# Altium schematic symbol library AdMainSchLibG_1.0.SchLib: 40 symbols
Pins are listed as number, name and electrical type; pins without a type are passive.

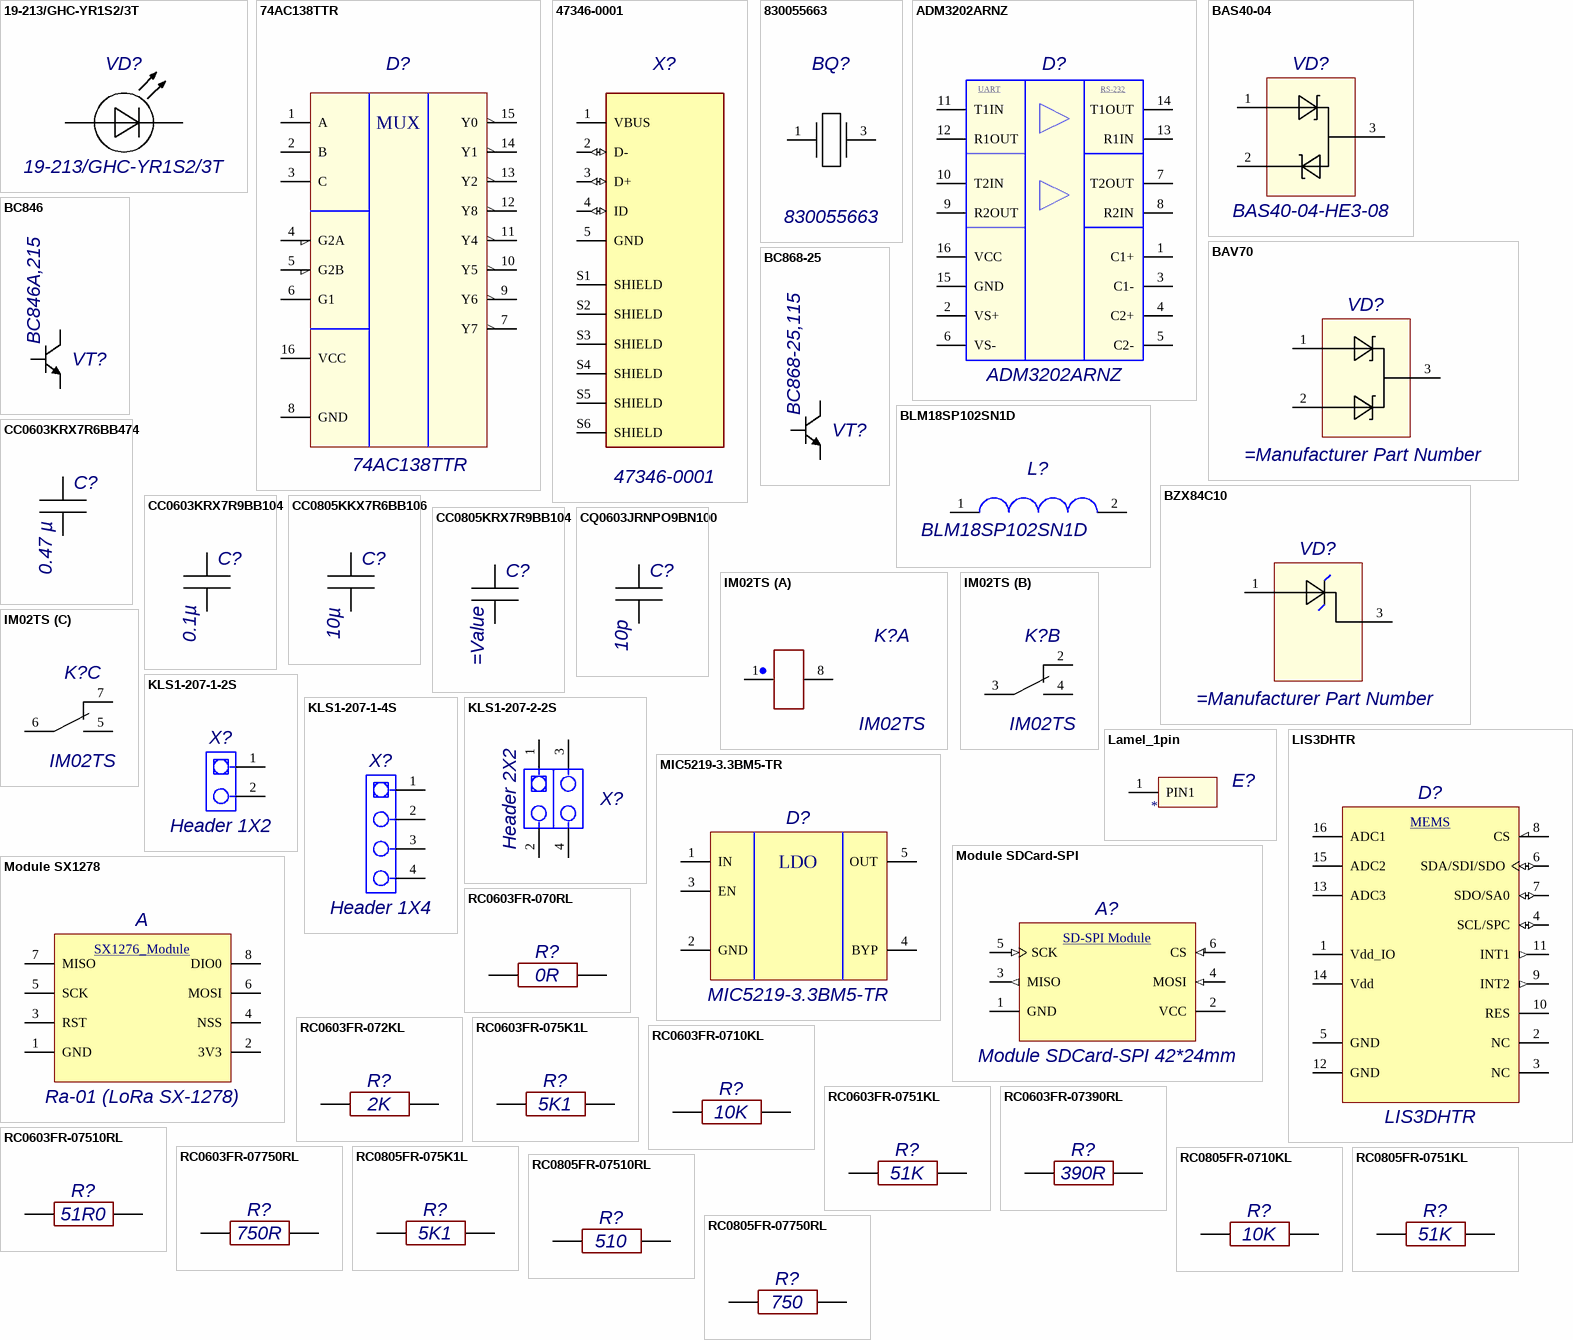
[diagram p0: symbols 19-213/GHC-YR1S2/3T to RC0805FR-07750RL]

## 19-213/GHC-YR1S2/3T
designator VD?
LED GREEN CLEAR 0603 SMD; Manufacture: Everlight Electronics Co Ltd; Catagory: Optoelectronics, LED Indication - Discrete; Millicandela Rating: 199mcd; Voltage - Forward (Vf) (Typ): 3.3V; Current - Test: 20mA; Viewing Angle: 120°; Wavelength - Dominant: 528nm; Wavelength - Peak: 518nm; Lens Color: Colorless; Lens Style: Rectangle with Flat Top; Lens Size: 1.20mm x 0.80mm; Digi-Key Part Number: 19-213/GHC-YR1S2/3T-ND; Package/Case: 0603 (1608 Metric); Color: Green; Price 1k($): $7.02; ComponentLink1Description: HelpURL; ComponentLink1URL: https://www.digikey.com/en/products/detail/everlight-electronics-co-ltd/19-213-GHC-YR1S2-3T/2691511?s=N4IgTCBcDaIDIFMAmACAjATgLRjQZgHoBxACQGEsBNAJTQGUwC8AVEAXQF8g; Manufacture Part Number: 19-213/GHC-YR1S2/3T; Size / Dimension: *; Lens Transparency: Clear; Height(Max): 0.70mm
footprint LED0603 (Led_19/213_EVERLIGHT)
pins: 1, 2

## 74AC138TTR
designator D?
IC DECODER/DEMUX 1X3:8 16TSSOPDC-DC; Manufacture: STMicroelectronics; Catagory: Integrated Circuits (ICs), Logic, Signal Switches, Multiplexers, Decoders; Digi-Key Part Number: 74AC138TTR-ND; Manufacture Part Number: 74AC138TTR; Package/Case: 16-TSSOP; Price($): This product is no longer manufactured; Value: 74AC138TTR; ComponentLink2Description: Link; ComponentLink2URL: https://www.digikey.com/en/products/detail/stmicroelectronics/74ac138ttr/1037341
footprint TSSOP-16 (74AC138TTI)
pins: 1 A "1", 2 B "2", 3 C "3", 4 G2A "4", 5 G2B "5", 6 G1 "6", 7 Y7 "7", 8 GND (power) "8", 9 Y6 "9", 10 Y5 "10", 11 Y4 "11", 12 Y8 "12", 13 Y2 "13", 14 Y1 "14", 15 Y0 "15", 16 VCC (power) "16"
text: MUX

## 47346-0001
designator X?
CONN RCPT USB2.0 MICRO B SMD R/A; Manufacture: Molex; Connector Type: USB - micro B; Current Rating (Amps): 1A, 1.8A; Voltage - Rated: 30VAC; Mating Cycles: 10000; Shielding: Shielded; Material Flammability Rating: UL94 V-0; SnapEDA_Link: https://www.snapeda.com/parts/47346-0001/Molex/view-part/53503/?ref=snap; Manufacture Part Number: 47346-0001; Digi-Key Part Number: WM17141TR-ND; Series: 47346; Parameter 3: *; Specifications: USB 2.0; Mounting Type: Surface Mount, Right Angle; Mounting Feature: Horizontal; Contact Finish: Gold; Shell/Shielding Material: Steel, Stainless
footprint MOLEX_47346-0001 (Molex MicroUSB 473460001)
pins: 1 VBUS (power), 2 D- (io), 3 D+ (io), 4 ID (io), 5 GND (power), S1 SHIELD, S2 SHIELD, S3 SHIELD, S4 SHIELD, S5 SHIELD, S6 SHIELD

## 830055663
designator BQ?
WE-XTAL QUARTZ CRYSTAL 8.0 MHZ; Manufacture: Würth Elektronik; Catagory: Crystals, Oscillators, Resonators, Crystals; Frequency: 8 MHz; Frequency Stability: ±30ppm; Frequency Tolerance: ±20ppm; Load Capacitance: 18pF; ESR (Equivalent Series Resistance): 150 Ohms; Operating Mode: Fundamental; Digi-Key Part Number: 1923-830055663TR-ND; Package/Case: 4-SMD, No Lead; Type: MHz Crystal; Price ($): $0.65; ComponentLink1Description: HelpURL; ComponentLink1URL: https://www.digikey.com/en/products/detail/w%C3%BCrth-elektronik/830055663/13900244?s=N4IgTCBcDaIBwGYAMSCsqBsGEgLoF8g; Manufacture Part Number: 830055663; Series: CFPX-104
footprint Quartz5032 (WE-830055663)
pins: 1 Crystal, 3 Crystal

## ADM3202ARNZ
designator D?
IC TRANSCEIVER FULL 2/2 16SOIC; Manufacture: Analog Devices Inc.; Catagory: Integrated Circuits (ICs), Interface, Drivers, Receivers, Transceivers; Digi-Key Part Number: ADM3202ARNZ-REELTR-ND; Manufacture Part Number: ADM3202ARNZ; Package/Case: 16-SOIC (0.154", 3.90mm Width); Price($): $3.60000; Value: ADM3202ARNZ; ComponentLink2Description: Link; ComponentLink2URL: https://www.digikey.com/en/products/detail/analog-devices-inc/adm3202arnz-reel/994470
footprint SOIC-16 (3.9mm Width) (ADM3202ARNZ (0.154", 3.90mm Width))
pins: 1 C1+, 2 VS+, 3 C1-, 4 C2+, 5 C2-, 6 VS-, 7 T2OUT, 8 R2IN, 9 R2OUT, 10 T2IN, 11 T1IN, 12 R1OUT, 13 R1IN, 14 T1OUT, 15 GND, 16 VCC
text: UART; RS-232

## BAS40-04
designator VD?, comment BAS40-04-HE3-08
DIODE ARRAY SCHOTTKY 40V SOT23; Manufacture: Vishay General Semiconductor - Diodes Division; Catagory: Discrete Semiconductor Products, Diodes - Rectifiers - Arrays; Value: SOT-23-3; Diode Configuration: 1 Pair Series Connection; Current - Average Rectified (Io) (per Diode): 200mA; Voltage - Forward (Vf) (Max) @ If: 1 V @ 40 mA; Reverse Recovery Time (trr): 5 ns; Current - Reverse Leakage @ Vr: 100 nA @ 30 V; Digi-Key Part Number: 112-BAS40-04-HE3-08TR-ND; Manufacture Part Number: BAS40-04-HE3-08; Package/Case: SOT-23-3; Price 10pcs($): $3.03 per 10pcs; ComponentLink2Description: Link Supplier; ComponentLink2URL: https://www.digikey.com/en/products/detail/vishay-general-semiconductor-diodes-division/BAS40-04-HE3-08/4830200; Diode Type: Schottky; Voltage - DC Reverse (Vr) (Max): 40 V; ComponentLink3Description: Link; ComponentLink3URL: https://www.vishay.com/docs/85701/bas40v.pdf
footprint SOT23 (BC846)
pins: 1, 2, 3

## BAV70
designator VD?
Diode Array 1 Pair Common Cathode Standard 70 V 125mA (DC) Surface Mount TO-236-3, SC-59, SOT-23-3; Manufacture: Vishay General Semiconductor - Diodes Division; Manufacture Part Number: BAV70-E3-18; Catagory: Discrete Semiconductor Products, Diodes - Rectifiers - Arrays; Voltage - DC Reverse (Vr) (Max): 70 V; Voltage - Forward (Vf) (Max) @ If: 1 V @ 50 mA; Reverse Recovery Time (trr): 6 ns; Current - Reverse Leakage @ Vr: 2.5 µA @ 70 V; Digi-Key Part Number: BAV70-E3-18GITR-ND; Package/Case: SOT-23-3; Price 10pcs($): $1.82; Value: SOT-23-3; ComponentLink2Description: Link; ComponentLink2URL: https://www.digikey.com/en/products/detail/vishay-general-semiconductor-diodes-division/bav70-e3-18/4826950; Diode Configuration: 1 Pair Common Cathode; Diode Type: Standard; Current - Average Rectified (Io) (per Diode): 125mA (DC)
footprint SOT23(BC846)
pins: 1, 2, 3

## BC846
designator VT?, comment BC846A,215
TRANS NPN 65V 0.1A SOT-23-3; Manufacture: Nexperia USA Inc.; Catagory: Discrete Semiconductor Products, Transistors - Bipolar (BJT) - Single; Power(Watts): 250 mW; Current - Collector (Ic) (Max): 100 mA; Vce Saturation (Max) @ Ib, Ic: 400mV @ 5mA, 100mA; Current - Collector Cutoff (Max): 15nA (ICBO); DC Current Gain (hFE) (Min) @ Ic, Vce: 110 @ 2mA, 5V; Frequency - Transition: 100MHz; Digi-Key Part Number: 1727-4239-2-ND; Package/Case: SOT-323; Price ($): $0.14; ComponentLink1Description: Link Supplier; ComponentLink1URL: https://www.digikey.com/en/products/detail/nexperia-usa-inc/BC846A-215/1232259; Manufacture Part Number: BC846A,215; Voltage - Collector Emitter Breakdown (Max): 65 V; Operating Temperature: 150°C (TJ); ComponentLink2Description: Link; ComponentLink2URL: https://assets.nexperia.com/documents/data-sheet/BC846XW_SER.pdf
footprint SOT23 (BC846)
pins: 1 B, 2 E, 3 C

## BC868-25
designator VT?, comment BC868-25,115
TRANS NPN 20V 2A SOT89; Manufacture: Nexperia USA Inc.; Catagory: Discrete Semiconductor Products, Transistors - Bipolar (BJT) - Single; Power(Watts): 500 mW; Vce Saturation (Max) @ Ib, Ic: 600mV @ 200mA, 2A; Current - Collector Cutoff (Max): 100nA (ICBO); DC Current Gain (hFE) (Min) @ Ic, Vce: 160 @ 500mA, 1V; Frequency - Transition: 170MHz; Digi-Key Part Number: 1727-1568-2-ND; Package/Case: TO-243AA; Transistor Type: NPN; Current - Collector (Ic) (Max): 2 A; Price ($): $0.54; ComponentLink1Description: Link; ComponentLink1URL: https://assets.nexperia.com/documents/data-sheet/BCP68_BC868_BC68PA.pdf; Manufacture Part Number: BC868-25,115; Voltage - Collector Emitter Breakdown (Max): 20 V; Operating Temperature: 150°C (TJ); Value: BC868-25,115; ComponentLink2Description: Link Supplier; ComponentLink2URL: https://www.digikey.com/en/products/detail/nexperia-usa-inc/BC868-25-115/1232370
footprint SOT89 (BC868 Transistor NPN)
pins: 1 E, 2 C, 3 B

## BLM18SP102SN1D
designator L?
FB SMD 0603INCH 1000OHM NONAUTO; Manufacture: Murata Electronics; Catagory: Filters, Ferrite Beads and Chips; Filter Type: Power Line; Number of Lines: 1; Impedance @ Frequency: 1 kOhms @ 100 MHz; Current Rating (Max): 1.2A; DC Resistance (DCR) (Max): 185mOhm; Digi-Key Part Number: 490-BLM18SP102SN1DTR-ND; Manufacture Part Number: BLM18SP102SN1D; Package/Case: 0603 (1608 Metric); Price($/100): $15.90; ComponentLink2Description: Link; ComponentLink2URL: https://www.digikey.com/en/products/detail/stmicroelectronics/74ac138ttr/1037341
footprint 0603_BLM
pins: 1, 2

## BZX84C10
designator VD?
DIODE ZENER 10V 350MW SOT23-3; Manufacture: Onsemi; Manufacture Part Number: BZX84C10; Catagory: Discrete Semiconductor Products, Diodes - Zener - Single; Tolerance: ±6%; Impedance (Max) (Zzt): 20 Ohms; Current - Reverse Leakage @ Vr: 200 nA @ 7 V; Voltage - Forward (Vf) (Max) @ If: 900 mV @ 10 mA; Digi-Key Part Number: BZX84C10FSTR-ND; Package/Case: SOT-23-3; Price 10pcs($): This product is no longer manufactured; ComponentLink2Description: Link; ComponentLink2URL: https://www.digikey.com/en/products/detail/onsemi/BZX84C10/978979; Voltage - Zener (Nom) (Vz): 10 V
footprint SOT23(BC846)
pins: 1, 3

## CC0603KRX7R6BB474
designator C?, comment 0.47 µ
CAP CER 0.47UF 10V X7R 0603; Manufacture: YAGEO; Manufacture Part Number: CC0603KRX7R6BB474; Catagory: Capacitors, Ceramic Capacitors; Tolerance: ±10%; Digi-Key Part Number: 311-1798-2-ND; Package/Case: 0603 (1608 Metric); Price($/10): $1.22; ComponentLink2Description: Link; ComponentLink2URL: https://www.yageo.com/upload/media/product/productsearch/datasheet/mlcc/UPY-GPHC_X7R_6.3V-to-50V_20.pdf; Capacitance: 0.47 µ; Temperature Coefficient: X7R; ComponentLink3Description: Link supplier; ComponentLink3URL: https://www.digikey.com/en/products/detail/yageo/CC0603KRX7R6BB474/5195206?s=N4IgTCBcDaIMJwAwDZEGYDSAlAGgdi2QCEiAWPUkAXQF8g
footprint Cap0603 (CC0603KRX7R9BB104)
pins: 1, 2

## CC0603KRX7R9BB104
designator C?, comment 0.1µ
CAP CER 0.1UF 50V X7R 0603; Manufacture: YAGEO; Manufacture Part Number: CC0603KRX7R9BB104; Catagory: Capacitors, Ceramic Capacitors; Tolerance: ±10%; Digi-Key Part Number: 311-1344-2-ND; Package/Case: 0603 (1608 Metric); Price($/10): $0.54; ComponentLink2Description: Link; ComponentLink2URL: https://www.digikey.com/en/products/detail/yageo/CC0603KRX7R9BB104/2103082?s=N4IgTCBcDaIMJwAwDZEGYDSAlAGgdiwE4AhYgRkQBYQBdAXyA; Capacitance: 0.1µ; Temperature Coefficient: X7R
footprint Cap0603 (CC0603KRX7R9BB104)
pins: 1, 2

## CC0805KKX7R6BB106
designator C?, comment 10µ
CAP CER 10UF 10V X7R 0805; Manufacture: YAGEO; Manufacture Part Number: CC0805KKX7R6BB106; Catagory: Capacitors, Ceramic Capacitors; Tolerance: ±10%; Digi-Key Part Number: 311-1879-2-ND; Package/Case: 0805 (2012 Metric); Price($/10): $1.62; ComponentLink2Description: Link; ComponentLink2URL: https://www.digikey.com/en/products/detail/yageo/CC0805KKX7R6BB106/5195285; Capacitance: 10µ; Temperature Coefficient: X7R
footprint Cap0805 (CC0805KKX7R6BB106)
pins: 1, 2

## CC0805KRX7R9BB104
designator C?
CAP CER 0.1UF 50V X7R 0805; Manufacture: YAGEO; Manufacture Part Number: CC0805KRX7R9BB104; Catagory: Capacitors, Ceramic Capacitors; Capacitance: 0.1 µF; Tolerance: ±10%; Digi-Key Part Number: 311-1140-2-ND; Package/Case: 0805 (2012 Metric); Price($/10): $0.74; ComponentLink2Description: Link; ComponentLink2URL: https://www.digikey.com/en/products/detail/yageo/CC0805KRX7R9BB104/302874; Temperature Coefficient: X7R
footprint Cap0805
pins: 1, 2

## CQ0603JRNPO9BN100
designator C?, comment 10p
CAP CER 10PF 50V C0G/NPO 0603; Manufacture: YAGEO; Manufacture Part Number: CQ0603JRNPO9BN100; Catagory: Capacitors, Ceramic Capacitors; Temperature Coefficient: COG, NPO; Tolerance: ±5%; Digi-Key Part Number: CQ0603JRNPO9BN100-ND; Package/Case: 0603 (1608 Metric); Price($/20k): $970,8; ComponentLink2Description: Link; ComponentLink2URL: https://www.digikey.com/en/products/detail/yageo/cq0603jrnpo9bn100/6097785; Capacitance: 10p
footprint Cap0603 (CC0603KRX7R9BB104)
pins: 1, 2

## IM02TS
designator K?
RELAY TELECOM DPDT 2A 4.5VDC; Manufacture: TE Connectivity Potter & Brumfield Relays; Catagory: Relays, Signal Relays, Up to 2 Amps; Contact Form: DPDT (2 Form C); Switching Voltage: 250VAC, 220VDC - Max; Digi-Key Part Number: PB1093-ND; Manufacture Part Number: IM02TS; Series: IM, AXICOM; Price($): $4.59; ComponentLink2Description: Link Supplier; ComponentLink2URL: https://www.digikey.com/en/products/detail/te-connectivity-potter-brumfield-relays/IM02TS/1633979?s=N4IgTCBcDaIJIFkAMYAqBlEBdAvkA; Mounting Type: Through Hole; Coil Voltage: 4.5VDC; Contact Rating (Current): 2 A; ComponentLink3Description: Link; ComponentLink3URL: https://www.te.com/commerce/DocumentDelivery/DDEController?Action=srchrtrv&DocNm=1-1773734-7_IM_Relay_I_Type&DocType=DS&DocLang=English
footprint IM02TS (IM02TS (THT VERSION))
part A pins: 1, 8
part B pins: 2, 3, 4
part C pins: 5, 6, 7

## KLS1-207-1-2S
designator X?, comment Header 1X2
1X2 Pin Header Single Row Through Hole Pitch 2.54(PLS-2); Manufacture: Assmann WSW components, Inc; Catagory: Connector Headers and PCB Receptacles; Checked PCB: *; Checked SCH: *; Parameter 1: *; Manufacture Part Number: *; ComponentLink1Description: HelpURL; ComponentLink1URL: https://www.arrow.com/en/products/aw140-eg-g02a/assmann-wsw-components-inc
footprint PLS1-2 (1R2 ( pitch 2.54mm))
pins: 1, 2

## KLS1-207-1-4S
designator X?, comment Header 1X4
1X4 Pin Header Single Row Through Hole Pitch 2.54; Manufacture: Assmann WSW components, Inc; Catagory: Connector Headers and PCB Receptacles; Checked PCB: *; Checked SCH: *; Parameter 1: *; Manufacture Part Number: *; ComponentLink1Description: HelpURL; ComponentLink1URL: https://www.arrow.com/en/products/aw140-eg-g02a/assmann-wsw-components-inc
footprint PLS1-4 (1R4 ( pitch 2.54mm))
pins: 1, 2, 3, 4

## KLS1-207-2-2S
designator X?, comment Header 2X2
2X2 Pin Header Double Row Through Hole Pitch 2.54(PLS-2); Manufacture: Assmann WSW components, Inc; Manufacture Part Number: Header KLS1-207-2-2S; Catagory: Connector Headers and PCB Receptacles; Checked PCB: *; Checked SCH: *; Parameter 1: *; ComponentLink1Description: HelpURL; ComponentLink1URL: https://www.arrow.com/en/products/aw140-eg-g02a/assmann-wsw-components-inc
footprint PLS2-2 (2R2 ( pitch 2.54mm) KLS1-207-2-2S)
pins: 1, 2, 3, 4

## Lamel_1pin
designator E?
footprint Lamel_1pin(1.5*3)
pins: 1 PIN1

## LIS3DHTR
designator D?
ACCEL 2-16G I2C/SPI 16LGA; Manufacture: STMicroelectronics; Catagory: Sensors, Transducers, Motion Sensors - Accelerometers; Digi-Key Part Number: 497-10613-2-ND - Tape & Reel; Manufacture Part Number: LIS3DHTR; Package/Case: 16-LGA (3x3); Price($): $2.11000; Value: LIS3DHTR; ComponentLink2Description: Link; ComponentLink2URL: https://www.st.com/en/mems-and-sensors/lis3dh.html; ComponentLink3Description: Link Supplier; ComponentLink3URL: https://www.digikey.com/en/products/detail/stmicroelectronics/LIS3DHTR/2334338?s=N4IgTCBcDaIDIEkDKBmAIgCQCoCUQF0BfIA
footprint LGA-16 (LIS3DHTR (3*3))
pins: 1 Vdd_IO (power), 2 NC, 3 NC, 4 SCL/SPC (io), 5 GND (power), 6 SDA/SDI/SDO (io), 7 SDO/SA0 (io), 8 CS, 9 INT2 (out), 10 RES, 11 INT1 (out), 12 GND (power), 13 ADC3, 14 Vdd (power), 15 ADC2, 16 ADC1
text: MEMS

## MIC5219-3.3BM5-TR
designator D?
IC REG LINEAR 3.3V 500MA SOT23-5; Manufacture: Microchip Technology; Catagory: Integrated Circuits (ICs), Power Management (PMIC), Voltage Regulators - Linear; Voltage - Input (Max): 12V; Voltage Dropout (Max): 0.6V @ 500mA; Current - Quiescent (Iq): 8 µA; PSRR: 75dB (120Hz); Control Features: Enable; Digi-Key Part Number: MIC5219-3.3BM5-TR; Manufacture Part Number: MIC5219-3.3BM5-TR; Package/Case: SOT-23-5; ComponentLink2Description: Link; ComponentLink2URL: https://ww1.microchip.com/downloads/en/DeviceDoc/MIC5219-500mA-Peak-Output-LDO-Regulator-DS20006021A.pdf; Voltage - Output (Min/Fixed): 3.3V; Current - Output: 500mA; ComponentLink3Description: Link Supplier; ComponentLink3URL: https://www.digikey.com/en/products/detail/microchip-technology/MIC5219-3-3BM5-TR/771289?s=N4IgTCBcDaILIEkDCBWMBGAnAWgMwDpcAhOFEAXQF8g
footprint SOT23-5 (MIC5219-3.3BM5-TR)
pins: 1 IN (power) "1", 2 GND (power) "2", 3 EN "3", 4 BYP "4", 5 OUT (power) "5"
text: LDO

## Module SDCard-SPI
designator A?, comment Module SDCard-SPI 42*24mm
MicroSD Card adapter (42*24mm)/Arduino; Supply voltage: 5±0.5V; Current consumption typ(max): 80mA (200mA); Connections: 6pin IDC1-6; Support format: Micro SDCard(<=2G), Micro SDHC(<=32G); Manufacture Part Number: Module SDCard-SPI 42*24mm; ComponentLink1Description: Link; ComponentLink1URL: http://datalogger.pbworks.com/w/file/fetch/89507207/Datalogger%20-%20SD%20Memory%20Reader%20Datasheet.pdf; Dimensions: 42*24*12mm; Weight: 5g
footprint Module SD2SPI (Arduino MicroSD to SPI Card reader 42*24*12mm)
pins: 1 GND (power) "1", 2 VCC (power) "2", 3 MISO (out) "3", 4 MOSI (in) "4", 5 SCK (in) "5", 6 CS (in) "5"
text: SD-SPI Module

## Module SX1278
designator A, comment Ra-01 (LoRa SX-1278)
SX1278 LoRa  433 MHZ/SPI /Spring Antenna/Ra - 01; ComponentLink1Description: Link; ComponentLink1URL: http://www.ai-thinker.com/pro_view-5.html; Manufacture Part Number: Ra-01 (LoRa SX-1278)
footprint Module SX1278 (Ra-01)
pins: 1 GND "1", 2 3V3 "2", 3 RST "3", 4 NSS "4", 5 SCK "5", 6 MOSI "5", 7 MISO "5", 8 DIO0 "5"
text: SX1276_Module

## RC0603FR-070RL
designator R?, comment 0R
RES 0 OHM JUMPER 1/10W 0603; Manufacture: Yageo; Manufacture Part Number: RC0603FR-070RL; Catagory: Resistors; Power(Watts): 0.1W, 1/10W; Tolerance: ±1%; Digi-Key Part Number: 311-0.0HRTR-ND; Package/Case: 0603 (1608 Metric); Resistance: 0R; Price 1k($): $3.29; ComponentLink1Description: Link Supplier; ComponentLink1URL: https://www.digikey.com/en/products/detail/yageo/RC0603FR-075K1L/727268?s=N4IgTCBcDaIEoGEAMA2JBmAYnAtEg7AKwDSAjADIgC6AvkA; ComponentLink2Description: Link; ComponentLink2URL: https://www.yageo.com/upload/media/product/productsearch/datasheet/rchip/PYu-RC_Group_51_RoHS_L_12.pdf
footprint RES0603
pins: 1, 2

## RC0603FR-072KL
designator R?, comment 2K
RES 2K OHM 1% 1/10W 0603; Manufacture: Yageo; Manufacture Part Number: RC0603FR-072KL; Catagory: Resistors; Power(Watts): 0.1W, 1/10W; Digi-Key Part Number: 311-2.00KHRTR-ND; Package/Case: 0603 (1608 Metric); Tolerance: ±1%; Resistance: 2K; Price 1k($): $3.90; ComponentLink1Description: Link Supplier; ComponentLink1URL: https://www.digikey.com/en/products/detail/yageo/RC0603FR-072KL/727009?s=N4IgTCBcDaIEoGEAMA2JBmAYnAtEg7GANIAyIAugL5A; ComponentLink2Description: Link; ComponentLink2URL: https://www.yageo.com/upload/media/product/productsearch/datasheet/rchip/PYu-RC_Group_51_RoHS_L_12.pdf
footprint RES0603
pins: 1, 2

## RC0603FR-075K1L
designator R?, comment 5K1
RES 5K1 OHM 1% 1/10W 0603; Manufacture: Yageo; Manufacture Part Number: RC0603FR-075K1L; Catagory: Resistors; Power(Watts): 0.1W, 1/10W; Digi-Key Part Number: 311-5.10KHRTR-ND; Package/Case: 0603 (1608 Metric); Tolerance: ±1%; Resistance: 5K1; Price 1k($): $3.90; ComponentLink1Description: HelpURL; ComponentLink1URL: https://www.digikey.com/en/products/detail/yageo/RC0603FR-075K1L/727268?s=N4IgTCBcDaIEoGEAMA2JBmAYnAtEg7AKwDSAjADIgC6AvkA
footprint RES0603
pins: 1, 2

## RC0603FR-0710KL
designator R?, comment 10K
RES 10K OHM 1% 1/10W 0603; Manufacture: Yageo; Manufacture Part Number: RC0603FR-0710KL; Catagory: Resistors; Power(Watts): 0.1W, 1/10W; Digi-Key Part Number: 311-10.0KHRTR-ND; Package/Case: 0603 (1608 Metric); Tolerance: ±1%; Resistance: 10K; Price 1k($): $3.90; ComponentLink1Description: HelpURL; ComponentLink1URL: https://www.digikey.com/en/products/detail/yageo/RC0603FR-0710KL/726880?s=N4IgTCBcDaIEoGEAMA2JBmAYnAtEg7AIxIDSAMiALoC%2BQA
footprint RES0603
pins: 1, 2

## RC0603FR-0751KL
designator R?, comment 51K
RES 51K OHM 1% 1/10W 0603; Manufacture: Yageo; Manufacture Part Number: RC0603FR-0751KL; Catagory: Resistors; Power(Watts): 0.1W, 1/10W; Digi-Key Part Number: 311-51.0KHRTR-ND; Package/Case: 0603 (1608 Metric); Tolerance: ±1%; Resistance: 51K; Price 1k($): $3.90; ComponentLink1Description: HelpURL; ComponentLink1URL: https://www.digikey.com/en/products/detail/yageo/RC0603FR-0751KL/727282?s=N4IgTCBcDaIEoGEAMA2JBmAYnAtEg7AKwCMA0gDIgC6AvkA
footprint RES0603
pins: 1, 2

## RC0603FR-07390RL
designator R?, comment 390R
RES 390 OHM 1% 1/10W 0603; Manufacture: Yageo; Manufacture Part Number: RC0603FR-07390RL; Catagory: Resistors; Power(Watts): 0.1W, 1/10W; Digi-Key Part Number: 311-390HRTR-ND; Package/Case: 0603 (1608 Metric); Tolerance: ±1%; Resistance: 390R; Price 1k($): $3.90; ComponentLink1Description: HelpURL; ComponentLink1URL: https://www.digikey.com/en/products/detail/yageo/RC0603FR-07390RL/727198
footprint RES0603
pins: 1, 2

## RC0603FR-07510RL
designator R?, comment 51R0
RES 510 OHM 1% 1/10W 0603; Manufacture: Yageo; Manufacture Part Number: RC0603FR-07510RL; Catagory: Resistors; Power(Watts): 0.1W, 1/10W; Digi-Key Part Number: 311-510HRTR-ND; Package/Case: 0603 (1608 Metric); Tolerance: ±1%; Resistance: 51R0; Price 1k($): $3.90; ComponentLink1Description: HelpURL; ComponentLink1URL: https://www.digikey.com/en/products/detail/yageo/RC0603FR-07510RL/727285?s=N4IgTCBcDaIEoGEAMA2JBmAYnAtEg7AKwCMScAMiALoC%2BQA
footprint RES0603
pins: 1, 2

## RC0603FR-07750RL
designator R?, comment 750R
RES 750 OHM 0.5% 1/10W 0603; Manufacture: Yageo; Manufacture Part Number: RC0603FR-07750RL; Catagory: Resistors; Power(Watts): 0.1W, 1/10W; Tolerance: ±1%; Digi-Key Part Number: 311-750HRTR-ND; Package/Case: 0603 (1608 Metric); Resistance: 750R; Price 1k($): $3.90; ComponentLink1Description: HelpURL; ComponentLink1URL: https://www.digikey.com/en/products/detail/yageo/RC0603FR-07750RL/727379?s=N4IgTCBcDaIEoGEAMA2JBmAYnAtEg7PgKxJwAyIAugL5A
footprint RES0603
pins: 1, 2

## RC0805FR-075K1L
designator R?, comment 5K1
RES 5K1 OHM 1% 1/8W 0805; Manufacture: Yageo; Manufacture Part Number: RC0805FR-075K1L; Catagory: Resistors; Power(Watts): 0.125W, 1/8W; Digi-Key Part Number: 311-5.10KCRTR-ND; Package/Case: 0805 (2012 Metric); Tolerance: ±1%; Resistance: 5K1; Price 1k($): $6.80; ComponentLink1Description: HelpURL; ComponentLink1URL: https://www.digikey.com/en/products/detail/yageo/RC0805FR-075K1L/727988?s=N4IgTCBcDaIEoGEAMAOJBWAYnAtEg7OgNICMAMiALoC%2BQA
footprint 0805_IPC_UVVK
pins: 1, 2

## RC0805FR-0710KL
designator R?, comment 10K
RES 10K OHM 1% 1/8W 0805; Manufacture: Yageo; Manufacture Part Number: RC0805FR-0710KL; Catagory: Resistors; Power(Watts): 0.125W, 1/8W; Digi-Key Part Number: 311-10.0KCRTR-ND; Package/Case: 0805 (2012 Metric); Tolerance: ±1%; Resistance: 10K; Price 1k($): $7.02; ComponentLink1Description: HelpURL; ComponentLink1URL: https://www.digikey.com/en/products/detail/yageo/RC0805FR-0710KL/727535?s=N4IgTCBcDaIEoGEAMAOJBWAYnAtEg7AIxIDSAMiALoC%2BQA
footprint 0805_IPC_UVVK
pins: 1, 2

## RC0805FR-0751KL
designator R?, comment 51K
RES 51K OHM 1% 1/8W 0805; Manufacture: Yageo; Manufacture Part Number: RC0805FR-0751KL; Catagory: Resistors; Power(Watts): 0.125W, 1/8W; Digi-Key Part Number: 311-51.0KCRTR-ND; Package/Case: 0805 (2012 Metric); Tolerance: ±1%; Resistance: 51K; Price 1k($): $6.80; ComponentLink1Description: HelpURL; ComponentLink1URL: https://www.digikey.com/en/products/detail/yageo/RC0805FR-0751KL/728013?s=N4IgTCBcDaIEoGEAMAOJBWAYnAtEg7OgIwDSAMiALoC%2BQA
footprint 0805_IPC_UVVK
pins: 1, 2

## RC0805FR-07510RL
designator R?, comment 510
RES 510 OHM 1% 1/8W 0805; Manufacture: Yageo; Manufacture Part Number: RC0805FR-07510RL; Catagory: Resistors; Power(Watts): 0.125W, 1/8W; Digi-Key Part Number: 311-510CRTR-ND; Package/Case: 0805 (2012 Metric); Tolerance: ±1%; Resistance: 510; Price 1k($): $6.80; ComponentLink1Description: HelpURL; ComponentLink1URL: https://www.digikey.com/en/products/detail/yageo/RC0805FR-07510RL/728016?s=N4IgTCBcDaIEoGEAMAOJBWAYnAtEg7OgIxJwAyIAugL5A
footprint 0805_IPC_UVVK
pins: 1, 2

## RC0805FR-07750RL
designator R?, comment 750
RES 750 OHM 1% 1/8W 0805; Manufacture: Yageo; Manufacture Part Number: RC0805FR-07750RL; Catagory: Resistors; Power(Watts): 0.125W, 1/8W; Digi-Key Part Number: 311-750CRTR-ND; Package/Case: 0805 (2012 Metric); Tolerance: ±1%; Resistance: 750; Price 1k($): $6.80; ComponentLink1Description: HelpURL; ComponentLink1URL: https://www.digikey.com/en/products/detail/yageo/RC0805FR-07750RL/728134?s=N4IgTCBcDaIEoGEAMAOJBWAYnAtEg7PuknADIgC6AvkA
footprint 0805_IPC_UVVK
pins: 1, 2

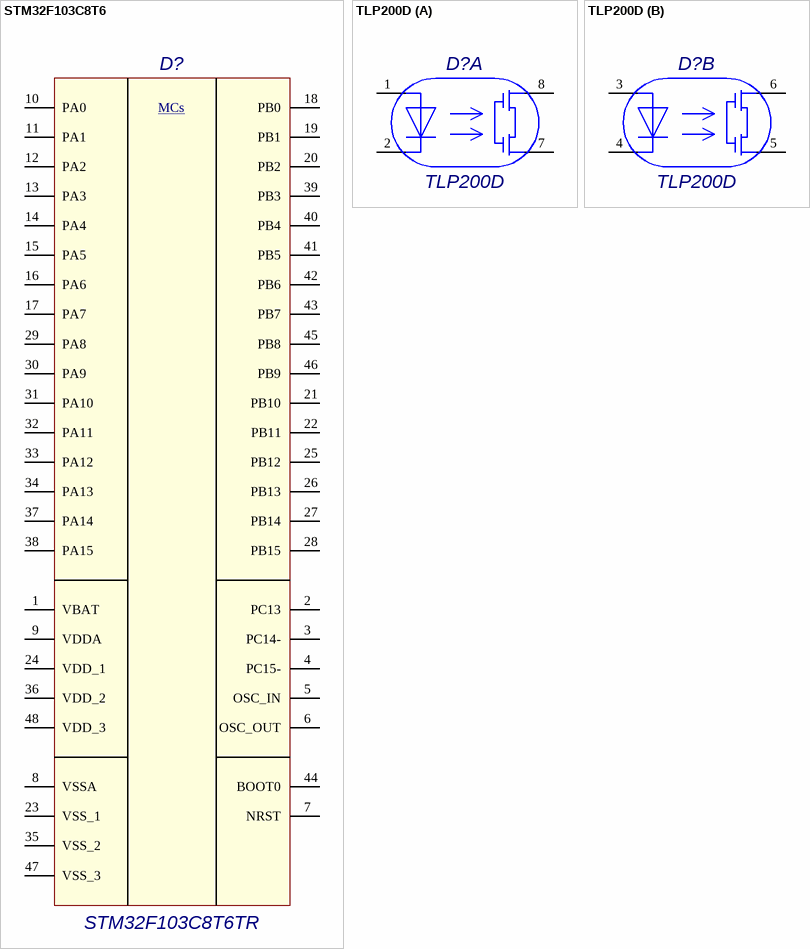
[diagram p1: symbols STM32F103C8T6 to TLP200D]

## STM32F103C8T6
designator D?, comment STM32F103C8T6TR
ARM® Cortex®-M3 STM32F1 Microcontroller IC 32-Bit Single-Core 72MHz 64KB (64K x 8) FLASH 48-LQFP (7x7); Manufacture: STMicroelectronics; Catagory: Integrated Circuits (ICs), Embedded Microcontrollers; sym_version: 1; Digi-Key Part Number: 497-17666-2-ND; Manufacture Part Number: STM32F103C8T6TR; Package/Case: 48-LQFP; Price($): $7.64; Value: STM32F103C8T6TR; ComponentLink2Description: Link; ComponentLink2URL: https://www.digikey.com/en/products/detail/stmicroelectronics/STM32F103C8T6TR/2122442
footprint LQFP-48 (Dest: STM32F103C8T6 - (7*7))
pins: 1 VBAT, 2 PC13, 3 PC14-, 4 PC15-, 5 OSC_IN, 6 OSC_OUT, 7 NRST, 8 VSSA, 9 VDDA, 10 PA0, 11 PA1, 12 PA2, 13 PA3, 14 PA4, 15 PA5, 16 PA6, 17 PA7, 18 PB0, 19 PB1, 20 PB2, 21 PB10, 22 PB11, 23 VSS_1, 24 VDD_1, 25 PB12, 26 PB13, 27 PB14, 28 PB15, 29 PA8, 30 PA9, 31 PA10, 32 PA11, 33 PA12, 34 PA13, 35 VSS_2, 36 VDD_2, 37 PA14, 38 PA15, 39 PB3, 40 PB4, 41 PB5, 42 PB6, 43 PB7, 44 BOOT0, 45 PB8, 46 PB9, 47 VSS_3, 48 VDD_3
text: MCs

## TLP200D
designator D?
MOSFET Output Optocouplers Photorelay Voff=200V Ion=0.2A; Manufacture: Toshiba; Digi-Key Part Number: *; Manufacture Part Number: TLP200D; Category: Isolators, Optoisolators - Transistor, Photovoltaic Output; Voltage - Isolation: *; ComponentLink1Description: Link; ComponentLink1URL: https://eu.mouser.com/ProductDetail/Toshiba/TLP200DTPF?qs=L%2FgSpqKJZEugu2qvV9Xpiw%3D%3D
footprint SOP-8(TLP-200)
part A pins: 1, 2, 7 (power), 8 (power)
part B pins: 3, 4, 5, 6